# EAGLE library part HDR-1X32 (library Mechanical)
100mil spaced 42mil drill connector
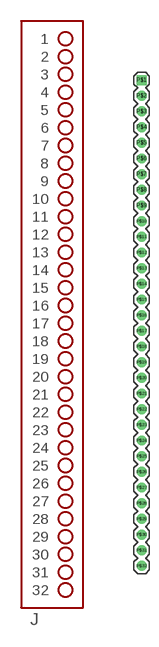
[diagram p49: symbol with the pads of HDR-1X32; footprint HDR-1X32]

Designator prefix J

## HDR-1X32  [HDR-1X32]
P$1  1  pas
P$2  2  pas
P$3  3  pas
P$4  4  pas
P$5  5  pas
P$6  6  pas
P$7  7  pas
P$8  8  pas
P$9  9  pas
P$10  10  pas
P$11  11  pas
P$12  12  pas
P$13  13  pas
P$14  14  pas
P$15  15  pas
P$16  16  pas
P$17  17  pas
P$18  18  pas
P$19  19  pas
P$20  20  pas
P$21  21  pas
P$22  22  pas
P$23  23  pas
P$24  24  pas
P$25  25  pas
P$26  26  pas
P$27  27  pas
P$28  28  pas
P$29  29  pas
P$30  30  pas
P$31  31  pas
P$32  32  pas

## Footprint HDR-1X32 (pad centres in mm)
drill 1.067 square: P$1 0,39.37
drill 1.067: P$2 0,36.83; P$3 0,34.29; P$4 0,31.75; P$5 0,29.21; P$6 0,26.67; P$7 0,24.13; P$8 0,21.59; P$9 0,19.05; P$10 0,16.51; P$11 0,13.97; P$12 0,11.43; P$13 0,8.89; P$14 0,6.35; P$15 0,3.81; P$16 0,1.27; P$17 0,-1.27; P$18 0,-3.81; P$19 0,-6.35; P$20 0,-8.89; P$21 0,-11.43; P$22 0,-13.97; P$23 0,-16.51; P$24 0,-19.05; P$25 0,-21.59; P$26 0,-24.13; P$27 0,-26.67; P$28 0,-29.21; P$29 0,-31.75; P$30 0,-34.29; P$31 0,-36.83; P$32 0,-39.37